# Altium schematic symbol library Common ICs.SchLib: 29 symbols
Pins are listed as number, name and electrical type; pins without a type are passive.

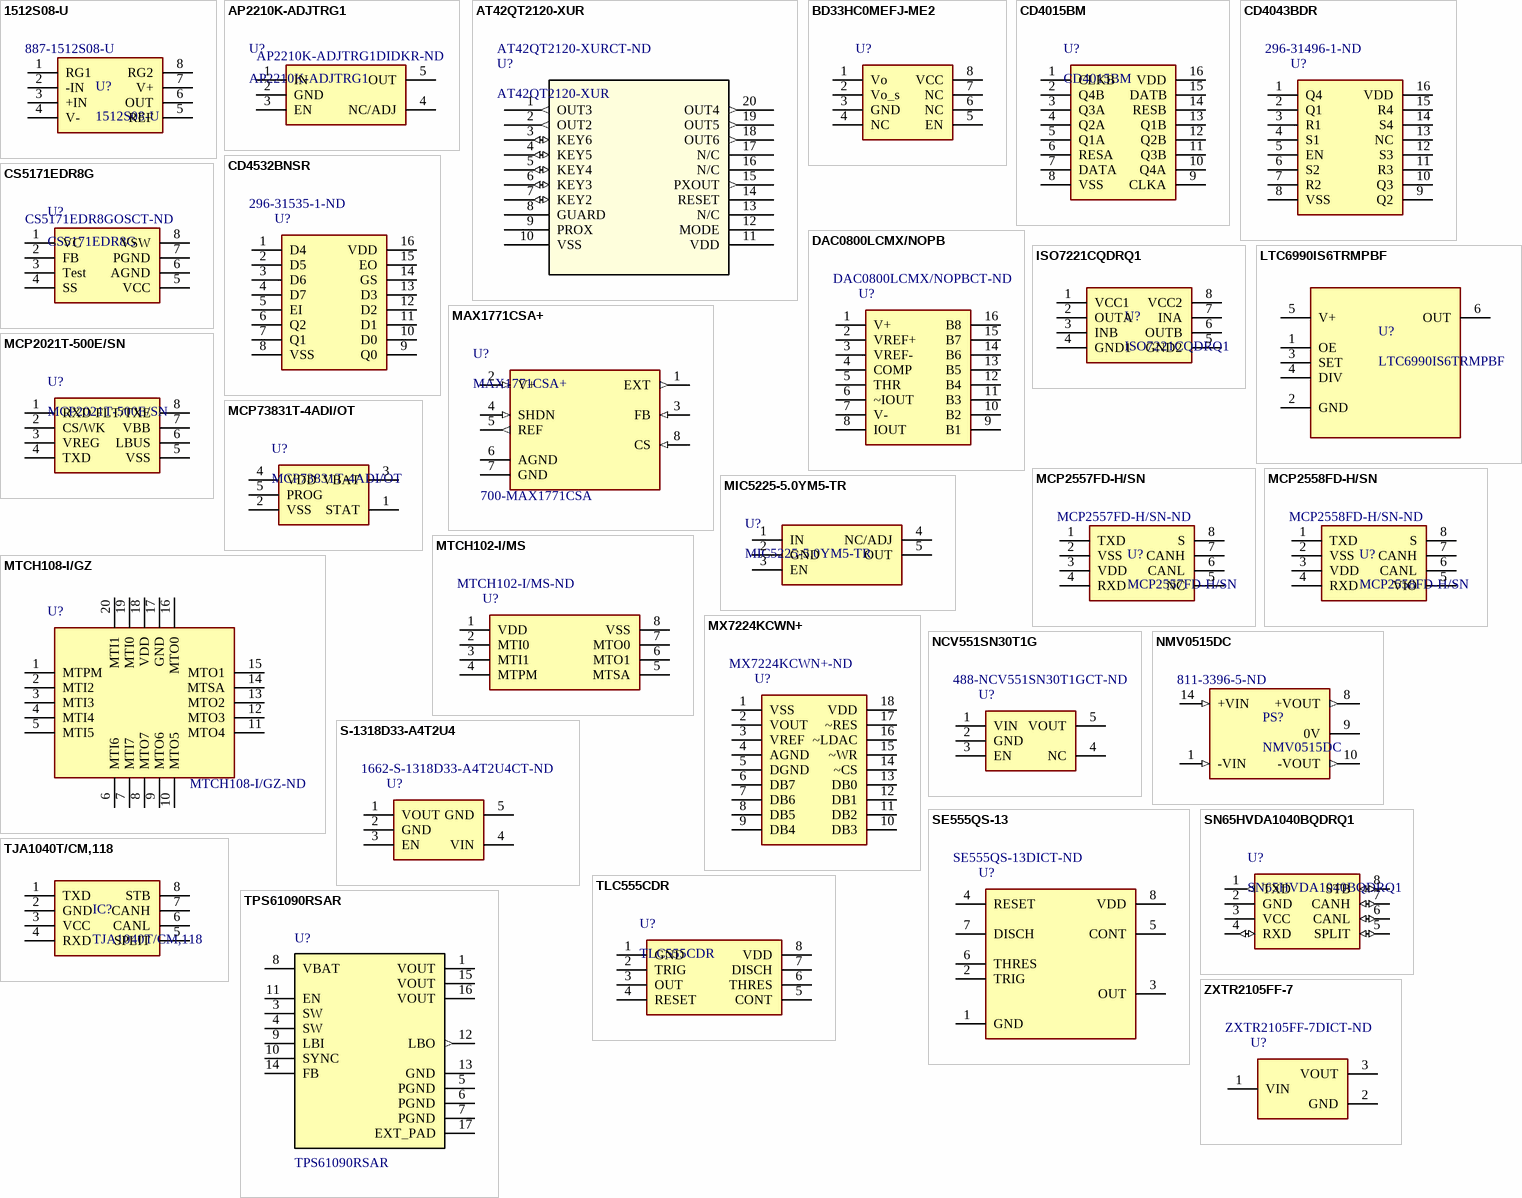
[diagram p0: symbols 1512S08-U to ZXTR2105FF-7]

## 1512S08-U
designator U?  Supplier Part Number 1: 887-1512S08-U
IC MIC PREAMP HIGH PERFORM. AUDIO 0dB SOIC-8; Manufacturer 1: NXP Semiconductors; Manufacturer Part Number 1: TJA1040T/CM,118; Min Supply Voltage: 4.75V; Max Supply Voltage: 5.25V; Number of Transceivers: 1; Operating Supply Voltage: 5V; Nominal Supply Current: 70mA; Interface: Serial; Data Rate: 1Mbps; Simplex/Duplex: Half Duplex; Receiver Hysteresis: 70mV; Stock 1: 18495; Pricing 1: 1=1.43000, 10=1.28200, 100=0.99950, 500=0.82566, 1000=0.65184 (USD); RoHS: Yes; Mount: Surface Mount; Case/Package: SO; Number of Pins: 8; Contact Plating: Gold; Min Operating Temperature: -40°C; Max Operating Temperature: 150°C; Packaging: Tape and Reel; Package Quantity: 1; Max Supply Current: 70mA; Number of Transmit Buffers: 1; Number of Receive Buffers: 1; Radiation Hardening: No; Lead Free: Lead Free; REACH SVHC: No SVHC; ComponentLink1URL: https://datasheet.ciiva.com/26933/getdatasheetpartid-728716-26933443.pdf?src-supplier=Verical; ComponentLink1Description: https://datasheet.ciiva.com/26933/getdatasheetpartid-728716-26933443.pdf?src-supplier=Verical; ComponentLink2URL: https://datasheet.ciiva.com/16514/tja1040-16514421.pdf?src-supplier=Future+Electronics; ComponentLink2Description: https://datasheet.ciiva.com/16514/tja1040-16514421.pdf?src-supplier=Future+Electronics; ComponentLink3URL: https://datasheet.ciiva.com/18624/tja1040-18624870.pdf?src-supplier=Digi-Key; ComponentLink3Description: https://datasheet.ciiva.com/18624/tja1040-18624870.pdf?src-supplier=Digi-Key; ComponentLink4URL: https://datasheet.ciiva.com/18624/tja1040-18624871.pdf?src-supplier=Digi-Key; ComponentLink4Description: https://datasheet.ciiva.com/18624/tja1040-18624871.pdf?src-supplier=Digi-Key; Supplier 1: Mouser
footprint SOIC-8_N
pins: 1 RG1, 2 -IN, 3 +IN, 4 V-, 5 REF, 6 OUT, 7 V+, 8 RG2

## AP2210K-ADJTRG1
designator U?  Supplier Part Number 1: AP2210K-ADJTRG1DIDKR-ND
IC REG LIN POS ADJ 300MA SOT23-5; MF: {'manufacturer': u'Microchip'}; MP: MIC5225-5.0YM5-TR; Value: *; Price: None; Package: None; Availability: Unavailable; Supplier 1: Digi-Key
footprint SOT-23-5-N
pins: 1 IN, 2 GND, 3 EN, 4 NC/ADJ, 5 OUT

## AT42QT2120-XUR
designator U?  Supplier Part Number 1: AT42QT2120-XURCT-ND
IC TOUCH SENSOR 12CH 20TSSOP; Mfr_Name: Microchip; Copyright: Copyright (C) 2022 Ultra Librarian. All rights reserved.; Manufacturer_Part_Number: AT42QT2120-XUR; Digi-Key_Part_Number_1: 1611-AT42QT2120-XURCT-ND; Digi-Key_Part_Number_2: AT42QT2120-XURCT-ND; Digi-Key_Part_Number_3: AT42QT2120-XURDKR-ND; Digi-Key_Part_Number_4: AT42QT2120-XURTR-ND; RefDes: RefDes; Type: DEV; Supplier 1: Digi-Key
footprint TSSOP-20_MC_MCH
pins: 1 OUT3 (out), 2 OUT2 (out), 3 KEY6 (io), 4 KEY5 (io), 5 KEY4 (io), 6 KEY3 (io), 7 KEY2 (io), 8 GUARD, 9 PROX, 10 VSS, 11 VDD (power), 12 MODE, 13 N/C, 14 RESET, 15 PXOUT (out), 16 N/C, 17 N/C, 18 OUT6 (out), 19 OUT5 (out), 20 OUT4 (out)

## BD33HC0MEFJ-ME2
designator U?  (value not drawn)
IC REG LINEAR 3.3V 1A 8HTSOP; Supplier 1: Digi-Key; Supplier Part Number 1: BD33HC0MEFJ-ME2CT-ND
footprint HTSOP-J8
pins: 1 Vo, 2 Vo_s, 3 GND, 4 NC, 5 EN, 6 NC, 7 NC, 8 VCC

## CD4015BM
designator U?
IC DUAL 4STAGE SHIFT REG 16-SOIC; Supplier 1: Digi-Key; Supplier Part Number 1: 296-23201-5-ND
footprint SOIC-16_N
pins: 1 CLKB, 2 Q4B, 3 Q3A, 4 Q2A, 5 Q1A, 6 RESA, 7 DATA, 8 VSS, 9 CLKA, 10 Q4A, 11 Q3B, 12 Q2B, 13 Q1B, 14 RESB, 15 DATB, 16 VDD

## CD4043BDR
designator U?  Supplier Part Number 1: 296-31496-1-ND  (hidden comment: CD4043BDR)
IC NOR R/S LATCH 3ST QUAD 16SOIC; Supplier 1: Digi-Key
footprint SOIC-16_N
pins: 1 Q4, 2 Q1, 3 R1, 4 S1, 5 EN, 6 S2, 7 R2, 8 VSS, 9 Q2, 10 Q3, 11 R3, 12 S3, 13 NC, 14 S4, 15 R4, 16 VDD

## CD4532BNSR
designator U?  Supplier Part Number 1: 296-31535-1-ND  (hidden comment: CD4532BNSR)
IC 8BIT PRIORITY ENCODER 16SO; Supplier 1: Digi-Key
footprint SOIC-16_N
pins: 1 D4, 2 D5, 3 D6, 4 D7, 5 EI, 6 Q2, 7 Q1, 8 VSS, 9 Q0, 10 D0, 11 D1, 12 D2, 13 D3, 14 GS, 15 EO, 16 VDD

## CS5171EDR8G
designator U?  Supplier Part Number 1: CS5171EDR8GOSCT-ND
IC REG MULT CONFG ADJ 1.5A 8SOIC; MF: {'manufacturer': u'Texas Instruments'}; MP: SN65HVDA1040BQDRQ1; Value: *; Package: None; Price: None; Availability: Unavailable; Supplier 1: Digi-Key
footprint SOIC-8_N
pins: 1 VC, 2 FB, 3 Test, 4 SS, 5 VCC, 6 AGND, 7 PGND, 8 VSW

## DAC0800LCMX/NOPB
designator U?  Supplier Part Number 1: DAC0800LCMX/NOPBCT-ND  (hidden comment: DAC0800LCMX/NOPB)
IC DAC 8BIT A-OUT 16SOIC; Supplier 1: Digi-Key
footprint SOIC-16_N
pins: 1 V+, 2 VREF+, 3 VREF-, 4 COMP, 5 THR, 6 ~IOUT, 7 V-, 8 IOUT, 9 B1, 10 B2, 11 B3, 12 B4, 13 B5, 14 B6, 15 B7, 16 B8

## ISO7221CQDRQ1
designator U?
DGTL ISO 4000VPK 2CH 8SOIC; Manufacturer 1: NXP Semiconductors; Manufacturer Part Number 1: TJA1040T/CM,118; Min Supply Voltage: 4.75V; Max Supply Voltage: 5.25V; Number of Transceivers: 1; Operating Supply Voltage: 5V; Nominal Supply Current: 70mA; Interface: Serial; Data Rate: 1Mbps; Simplex/Duplex: Half Duplex; Receiver Hysteresis: 70mV; Stock 1: 18495; Pricing 1: 1=1.43000, 10=1.28200, 100=0.99950, 500=0.82566, 1000=0.65184 (USD); RoHS: Yes; Mount: Surface Mount; Case/Package: SO; Number of Pins: 8; Contact Plating: Gold; Min Operating Temperature: -40°C; Max Operating Temperature: 150°C; Packaging: Tape and Reel; Package Quantity: 1; Max Supply Current: 70mA; Number of Transmit Buffers: 1; Number of Receive Buffers: 1; Radiation Hardening: No; Lead Free: Lead Free; REACH SVHC: No SVHC; ComponentLink1URL: https://datasheet.ciiva.com/26933/getdatasheetpartid-728716-26933443.pdf?src-supplier=Verical; ComponentLink1Description: https://datasheet.ciiva.com/26933/getdatasheetpartid-728716-26933443.pdf?src-supplier=Verical; ComponentLink2URL: https://datasheet.ciiva.com/16514/tja1040-16514421.pdf?src-supplier=Future+Electronics; ComponentLink2Description: https://datasheet.ciiva.com/16514/tja1040-16514421.pdf?src-supplier=Future+Electronics; ComponentLink3URL: https://datasheet.ciiva.com/18624/tja1040-18624870.pdf?src-supplier=Digi-Key; ComponentLink3Description: https://datasheet.ciiva.com/18624/tja1040-18624870.pdf?src-supplier=Digi-Key; ComponentLink4URL: https://datasheet.ciiva.com/18624/tja1040-18624871.pdf?src-supplier=Digi-Key; ComponentLink4Description: https://datasheet.ciiva.com/18624/tja1040-18624871.pdf?src-supplier=Digi-Key; Supplier 1: Digi-Key; Supplier Part Number 1: 296-24954-1-ND
footprint SOIC-8_N
pins: 1 VCC1, 2 OUTA, 3 INB, 4 GND1, 5 GND2, 6 OUTB, 7 INA, 8 VCC2

## LTC6990IS6TRMPBF
designator U?
IC OSC SILICON PROG TSOT23-6; MP: LTC6990IS6#TRMPBF; MF: Analog Devices; DigiKey-Purchase-URL: https://snapeda.com/shop?store=DigiKey&id=4336837; SnapEDA_Link: https://www.snapeda.com/parts/LTC6990IS6%23TRMPBF/Analog%20Devices/view-part/4336837/?ref=snap; Availability: Unavailable; Arrow_Electronics-Purchase-URL: https://snapeda.com/shop?store=Arrow+Electronics&id=4336837; Mouser-Purchase-URL: https://snapeda.com/shop?store=Mouser&id=4336837; Package: SOT-23-6 Analog Devices; Value: *; Price: None
footprint SOT-23-6-N
pins: 1 OE, 2 GND, 3 SET, 4 DIV, 5 V+ (power), 6 OUT

## MAX1771CSA+
designator U?  Supplier Part Number 1: 700-MAX1771CSA
Switching Controllers 12V or Adjustable, High-Efficiency, Low IQ, Step-Up DC-DC Controller; MF: Maxim Integrated; Availability: Unavailable; SnapEDA_Link: https://www.snapeda.com/parts/MAX1771CSA+/Maxim%20Integrated/view-part/578827/?ref=snap; Price: None; Package: SOIC-8 Maxim; MP: MAX1771CSA+; Value: *; Supplier 1: Mouser
footprint SOIC-8_N
pins: 1 EXT (out), 2 V+ (in), 3 FB (in), 4 SHDN (in), 5 REF (out), 6 AGND (power), 7 GND (power), 8 CS (in)

## MCP2021T-500E/SN
designator U?
IC TRANSCEIVER HALF 1/1 8SOIC; MF: {'manufacturer': u'Texas Instruments'}; MP: SN65HVDA1040BQDRQ1; Value: *; Package: None; Price: None; Availability: Unavailable; Supplier 1: Digi-Key; Supplier Part Number 1: MCP2021T-500E/SNCT-ND
footprint SOIC-8_N
pins: 1 RXD, 2 CS/WK, 3 VREG, 4 TXD, 5 VSS, 6 LBUS, 7 VBB, 8 FLT/TXE

## MCP2557FD-H/SN
designator U?  Supplier Part Number 1: MCP2557FD-H/SN-ND
IC TRANSCEIVER 1/1 8SOIC; Manufacturer 1: NXP Semiconductors; Manufacturer Part Number 1: TJA1040T/CM,118; Min Supply Voltage: 4.75V; Max Supply Voltage: 5.25V; Number of Transceivers: 1; Operating Supply Voltage: 5V; Nominal Supply Current: 70mA; Interface: Serial; Data Rate: 1Mbps; Simplex/Duplex: Half Duplex; Receiver Hysteresis: 70mV; Stock 1: 18495; Pricing 1: 1=1.43000, 10=1.28200, 100=0.99950, 500=0.82566, 1000=0.65184 (USD); RoHS: Yes; Mount: Surface Mount; Case/Package: SO; Number of Pins: 8; Contact Plating: Gold; Min Operating Temperature: -40°C; Max Operating Temperature: 150°C; Packaging: Tape and Reel; Package Quantity: 1; Max Supply Current: 70mA; Number of Transmit Buffers: 1; Number of Receive Buffers: 1; Radiation Hardening: No; Lead Free: Lead Free; REACH SVHC: No SVHC; ComponentLink1URL: https://datasheet.ciiva.com/26933/getdatasheetpartid-728716-26933443.pdf?src-supplier=Verical; ComponentLink1Description: https://datasheet.ciiva.com/26933/getdatasheetpartid-728716-26933443.pdf?src-supplier=Verical; ComponentLink2URL: https://datasheet.ciiva.com/16514/tja1040-16514421.pdf?src-supplier=Future+Electronics; ComponentLink2Description: https://datasheet.ciiva.com/16514/tja1040-16514421.pdf?src-supplier=Future+Electronics; ComponentLink3URL: https://datasheet.ciiva.com/18624/tja1040-18624870.pdf?src-supplier=Digi-Key; ComponentLink3Description: https://datasheet.ciiva.com/18624/tja1040-18624870.pdf?src-supplier=Digi-Key; ComponentLink4URL: https://datasheet.ciiva.com/18624/tja1040-18624871.pdf?src-supplier=Digi-Key; ComponentLink4Description: https://datasheet.ciiva.com/18624/tja1040-18624871.pdf?src-supplier=Digi-Key; Supplier 1: Digi-Key
footprint SOIC-8_N
pins: 1 TXD, 2 VSS, 3 VDD, 4 RXD, 5 NC, 6 CANL, 7 CANH, 8 S

## MCP2558FD-H/SN
designator U?  Supplier Part Number 1: MCP2558FD-H/SN-ND
IC TRANSCEIVER 1/1 8SOIC; Manufacturer 1: NXP Semiconductors; Manufacturer Part Number 1: TJA1040T/CM,118; Min Supply Voltage: 4.75V; Max Supply Voltage: 5.25V; Number of Transceivers: 1; Operating Supply Voltage: 5V; Nominal Supply Current: 70mA; Interface: Serial; Data Rate: 1Mbps; Simplex/Duplex: Half Duplex; Receiver Hysteresis: 70mV; Stock 1: 18495; Pricing 1: 1=1.43000, 10=1.28200, 100=0.99950, 500=0.82566, 1000=0.65184 (USD); RoHS: Yes; Mount: Surface Mount; Case/Package: SO; Number of Pins: 8; Contact Plating: Gold; Min Operating Temperature: -40°C; Max Operating Temperature: 150°C; Packaging: Tape and Reel; Package Quantity: 1; Max Supply Current: 70mA; Number of Transmit Buffers: 1; Number of Receive Buffers: 1; Radiation Hardening: No; Lead Free: Lead Free; REACH SVHC: No SVHC; ComponentLink1URL: https://datasheet.ciiva.com/26933/getdatasheetpartid-728716-26933443.pdf?src-supplier=Verical; ComponentLink1Description: https://datasheet.ciiva.com/26933/getdatasheetpartid-728716-26933443.pdf?src-supplier=Verical; ComponentLink2URL: https://datasheet.ciiva.com/16514/tja1040-16514421.pdf?src-supplier=Future+Electronics; ComponentLink2Description: https://datasheet.ciiva.com/16514/tja1040-16514421.pdf?src-supplier=Future+Electronics; ComponentLink3URL: https://datasheet.ciiva.com/18624/tja1040-18624870.pdf?src-supplier=Digi-Key; ComponentLink3Description: https://datasheet.ciiva.com/18624/tja1040-18624870.pdf?src-supplier=Digi-Key; ComponentLink4URL: https://datasheet.ciiva.com/18624/tja1040-18624871.pdf?src-supplier=Digi-Key; ComponentLink4Description: https://datasheet.ciiva.com/18624/tja1040-18624871.pdf?src-supplier=Digi-Key; Supplier 1: Digi-Key
footprint SOIC-8_N
pins: 1 TXD, 2 VSS, 3 VDD, 4 RXD, 5 VIO, 6 CANL, 7 CANH, 8 S

## MCP73831T-4ADI/OT
designator U?
IC BATT CNTL LI-ION 1CEL SOT23-5; MF: {'manufacturer': u'Microchip'}; Value: *; Price: None; Availability: Unavailable; Package: None; MP: MCP73831T-4ADI/OT; Supplier 1: Digi-Key; Supplier Part Number 1: MCP73831T-4ADI/OTCT-ND
footprint SOT-23-5-N
pins: 1 STAT, 2 VSS, 3 VBAT, 4 VDD, 5 PROG

## MIC5225-5.0YM5-TR
designator U?
IC REG LINEAR 5V 150MA SOT23-5; MF: {'manufacturer': u'Microchip'}; Value: *; MP: MIC5225-5.0YM5-TR; Price: None; Package: None; Availability: Unavailable; Supplier 1: Digi-Key; Supplier Part Number 1: 576-2999-1-ND
footprint SOT-23-5-N
pins: 1 IN, 2 GND, 3 EN, 4 NC/ADJ, 5 OUT

## MTCH102-I/MS
designator U?  Supplier Part Number 1: MTCH102-I/MS-ND  (hidden comment: MTCH102-I/MS)
IC PROXIMITY DETECTOR 8MSOP; Supplier 1: Digi-Key
footprint MSOP-8
pins: 1 VDD, 2 MTI0, 3 MTI1, 4 MTPM, 5 MTSA, 6 MTO1, 7 MTO0, 8 VSS

## MTCH108-I/GZ
designator U?  Supplier Part Number 1: MTCH108-I/GZ-ND  (hidden comment: MTCH108-I/GZ)
IC PROXIMITY DETECTOR 20UQFN; Supplier 1: Digi-Key
footprint UQFN-20_4x4
pins: 1 MTPM, 2 MTI2, 3 MTI3, 4 MTI4, 5 MTI5, 6 MTI6, 7 MTI7, 8 MTO7, 9 MTO6, 10 MTO5, 11 MTO4, 12 MTO3, 13 MTO2, 14 MTSA, 15 MTO1, 16 MTO0, 17 GND, 18 VDD, 19 MTI0, 20 MTI1

## MX7224KCWN+
designator U?  Supplier Part Number 1: MX7224KCWN+-ND  (hidden comment: MX7224KCWN+)
IC DAC 8BIT V-OUT 18SOIC; Supplier 1: Digi-Key
footprint SOIC-18_N
pins: 1 VSS, 2 VOUT, 3 VREF, 4 AGND, 5 DGND, 6 DB7, 7 DB6, 8 DB5, 9 DB4, 10 DB3, 11 DB2, 12 DB1, 13 DB0, 14 ~CS, 15 ~WR, 16 ~LDAC, 17 ~RES, 18 VDD

## NCV551SN30T1G
designator U?  Supplier Part Number 1: 488-NCV551SN30T1GCT-ND  (hidden comment: NCV551SN30T1G)
IC REG LINEAR 3V 150MA 5TSOP; Supplier 1: Digi-Key
footprint TSOP-5-N
pins: 1 VIN, 2 GND, 3 EN, 4 NC, 5 VOUT

## NMV0515DC
designator PS?  Supplier Part Number 1: 811-3396-5-ND
Isolated 1W Dual Output DC-DC Converter 3kVDC, 4.5-9V Input; Package: None; Price: None; Value: *; MP: NMV0515DC; Availability: Unavailable; Supplier 1: Digi-Key
footprint CONV_NMV0515DC
pins: 1 -VIN (in), 8 +VOUT (out), 9 0V (power), 10 -VOUT (out), 14 +VIN (in)

## S-1318D33-A4T2U4
designator U?  Supplier Part Number 1: 1662-S-1318D33-A4T2U4CT-ND  (hidden comment: S-1318D33-A4T2U4)
IC REG LINEAR 3.3V 100MA HSNT4-B; Supplier 1: Digi-Key
footprint HSNT-4-B
pins: 1 VOUT, 2 GND, 3 EN, 4 VIN, 5 GND

## SE555QS-13
designator U?  Supplier Part Number 1: SE555QS-13DICT-ND  (hidden comment: SE555QS-13)
IC OSC SGL TIMER SO-8; Supplier 1: Digi-Key
footprint SO-8_S
pins: 1 GND, 2 TRIG, 3 OUT, 4 RESET, 5 CONT, 6 THRES, 7 DISCH, 8 VDD

## SN65HVDA1040BQDRQ1
designator U?
IC TRANSCEIVER 1/1 8SOIC; MF: {'manufacturer': u'Texas Instruments'}; Value: *; Package: None; MP: SN65HVDA1040BQDRQ1; Price: None; Availability: Unavailable; Supplier 1: Digi-Key; Supplier Part Number 1: 296-SN65HVDA1040BQDRQ1CT-ND
footprint SOIC-8_N
pins: 1 TXD (out), 2 GND (power), 3 VCC (power), 4 RXD (io), 5 SPLIT (io), 6 CANL (io), 7 CANH (io), 8 STB (io)

## TJA1040T/CM,118
designator IC?
IC TRANSCEIVER HALF 1/1 8SO; Manufacturer 1: NXP Semiconductors; Min Supply Voltage: 4.75V; Max Supply Voltage: 5.25V; Number of Transceivers: 1; Operating Supply Voltage: 5V; Nominal Supply Current: 70mA; Interface: Serial; Data Rate: 1Mbps; Simplex/Duplex: Half Duplex; Receiver Hysteresis: 70mV; Supplier 1: Digi-Key; Manufacturer Part Number 1: TJA1040T/CM,118; Stock 1: 18495; Pricing 1: 1=1.43000, 10=1.28200, 100=0.99950, 500=0.82566, 1000=0.65184 (USD); RoHS: Yes; Mount: Surface Mount; Case/Package: SO; Number of Pins: 8; Contact Plating: Gold; Min Operating Temperature: -40°C; Max Operating Temperature: 150°C; Packaging: Tape and Reel; Package Quantity: 1; Max Supply Current: 70mA; Number of Transmit Buffers: 1; Number of Receive Buffers: 1; Radiation Hardening: No; Lead Free: Lead Free; REACH SVHC: No SVHC; ComponentLink1URL: https://datasheet.ciiva.com/26933/getdatasheetpartid-728716-26933443.pdf?src-supplier=Verical; ComponentLink1Description: https://datasheet.ciiva.com/26933/getdatasheetpartid-728716-26933443.pdf?src-supplier=Verical; ComponentLink2URL: https://datasheet.ciiva.com/16514/tja1040-16514421.pdf?src-supplier=Future+Electronics; ComponentLink2Description: https://datasheet.ciiva.com/16514/tja1040-16514421.pdf?src-supplier=Future+Electronics; ComponentLink3URL: https://datasheet.ciiva.com/18624/tja1040-18624870.pdf?src-supplier=Digi-Key; ComponentLink3Description: https://datasheet.ciiva.com/18624/tja1040-18624870.pdf?src-supplier=Digi-Key; ComponentLink4URL: https://datasheet.ciiva.com/18624/tja1040-18624871.pdf?src-supplier=Digi-Key; ComponentLink4Description: https://datasheet.ciiva.com/18624/tja1040-18624871.pdf?src-supplier=Digi-Key; Supplier Part Number 1: 568-10289-1-ND
footprint SOIC-8_N
pins: 1 TXD, 2 GND, 3 VCC, 4 RXD, 5 SPLIT, 6 CANL, 7 CANH, 8 STB

## TLC555CDR
designator U?
IC OSC SGL TIMER 2.1MHZ 8-SOIC; Supplier 1: Digi-Key; Supplier Part Number 1: 296-1336-1-ND
footprint SOIC-8_N
pins: 1 GND, 2 TRIG, 3 OUT, 4 RESET, 5 CONT, 6 THRES, 7 DISCH, 8 VDD

## TPS61090RSAR
designator U?
IC REG BOOST ADJUSTABLE 2A 16QFN; MF: Texas Instruments; Price: None; SnapEDA_Link: https://www.snapeda.com/parts/TPS61090RSAR/Texas%20Instruments/view-part/?ref=snap; Availability: Unavailable; MP: TPS61090RSAR; Package: VQFN-16 Texas Instruments; Value: *; Supplier 1: Digi-Key; Supplier Part Number 1: 296-15259-1-ND
footprint QFN-16_3x3
pins: 1 VOUT (power), 3 SW, 4 SW, 5 PGND, 6 PGND, 7 PGND, 8 VBAT (power), 9 LBI, 10 SYNC, 11 EN, 12 LBO (out), 13 GND, 14 FB, 15 VOUT (power), 16 VOUT (power), 17 EXT_PAD

## ZXTR2105FF-7
designator U?  Supplier Part Number 1: ZXTR2105FF-7DICT-ND  (hidden comment: ZXTR2105FF-7)
IC REG LINEAR 5V 89MA SOT23; Supplier 1: Digi-Key
footprint SOT-23-3_N (SOT23, 6-Leads, Body 2.9x1.6mm, Pitch 0.95mm, Lead Span 2.7mm, IPC Medium Density)
pins: 1 VIN, 2 GND, 3 VOUT